# Altium footprint library M20VN.PcbLib: 1 footprints
Each footprint in its own frame and in the unit in brackets; x right, y up, seen from the top. Pads: shape width x height; smd on the part's side, far side on the other; paste and mask are expansions set on the pad; w line width, h text height; cw(c..) or ccw(c..) is an arc to the next point about the centre after c.
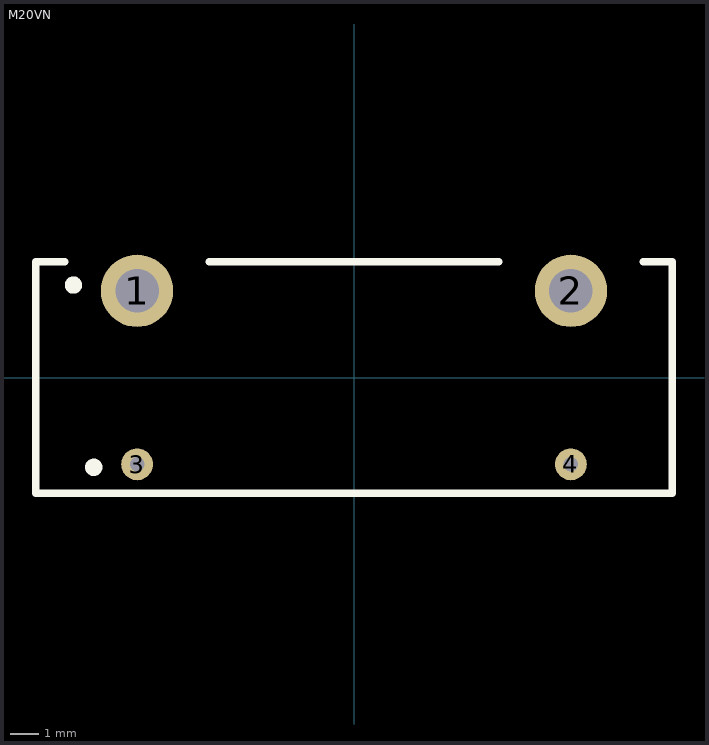
[diagram p0: the footprint, top view; thin cyan lines are the x and y axes]

## M20VN [mm]
pads (4):
  round 2.5 hole 1.5: 1(-7.5,3) 2(7.5,3)
  round 1.1 hole 0.5: 3(-7.5,-3) 4(7.5,-3)
Top Overlay:
  circle w0.3: c-9.7,3.2 r0.15
  circle w0.3: c-9,-3.1 r0.15
  lines w0.254: -10,4 -11,4 -11,-4 11,-4 11,4 10,4 ; -5,4 5,4
Bottom Overlay:
  circle w0.3: c-9,-3.1 r0.15
  circle w0.3: c-9.7,3.2 r0.15
3D body: height 22, standoff 2, extent -10,-2.5 10,2.5